# Altium schematic symbol library LTC3807.SchLib: 1 symbol
Pins are listed as number, name and electrical type; pins without a type are passive.

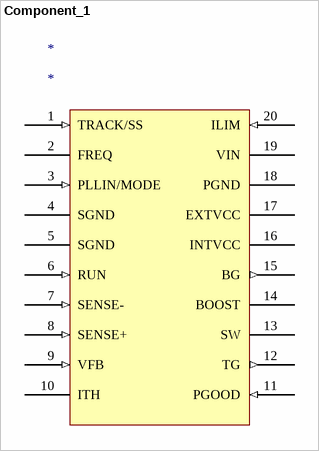
[diagram p0: symbol Component_1]

## Component_1
designator *
pins: 1 TRACK/SS (in), 2 FREQ, 3 PLLIN/MODE (in), 4 SGND (power), 5 SGND (power), 6 RUN (in), 7 SENSE- (in), 8 SENSE+ (in), 9 VFB (in), 10 ITH, 11 PGOOD (in), 12 TG (out), 13 SW, 14 BOOST (power), 15 BG (out), 16 INTVCC (power), 17 EXTVCC (power), 18 PGND (power), 19 VIN (power), 20 ILIM (in)